# Altium schematic symbol library CSTNE19M2VH3L000R0.SchLib: 1 symbol
Pins are listed as number, name and electrical type; pins without a type are passive.

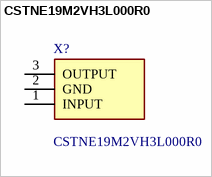
[diagram p0: symbol CSTNE19M2VH3L000R0]

## CSTNE19M2VH3L000R0
designator X?
19.2 MHz Ceramic Resonator Built in Capacitor 15 pF +/-0.11% -40C ~ 85C Surface Mount; Manufacturer_Name: Murata Electronics; Geometry.Height: 1mm; Mouser Part Number: 81-CSTNE19M2VH3L000R; Mouser Price/Stock: https://www.mouser.co.uk/ProductDetail/Murata-Electronics/CSTNE19M2VH3L000R0?qs=w%2Fv1CP2dgqpVNBOCkpNc0A%3D%3D; Manufacturer_Part_Number: CSTNE19M2VH3L000R0; Datasheet Link: https://www.murata.com/products/productdata/8802046246942/SPEC-CSTNE19M2VH3L000R0.pdf
footprint CSTNE19M2VH3L000R0
pins: 1 INPUT, 2 GND, 3 OUTPUT